# Altium schematic symbol library 10A_Motor_Driver.SchLib: 72 symbols (part 1 of 2)
Pins are listed as number, name and electrical type; pins without a type are passive.

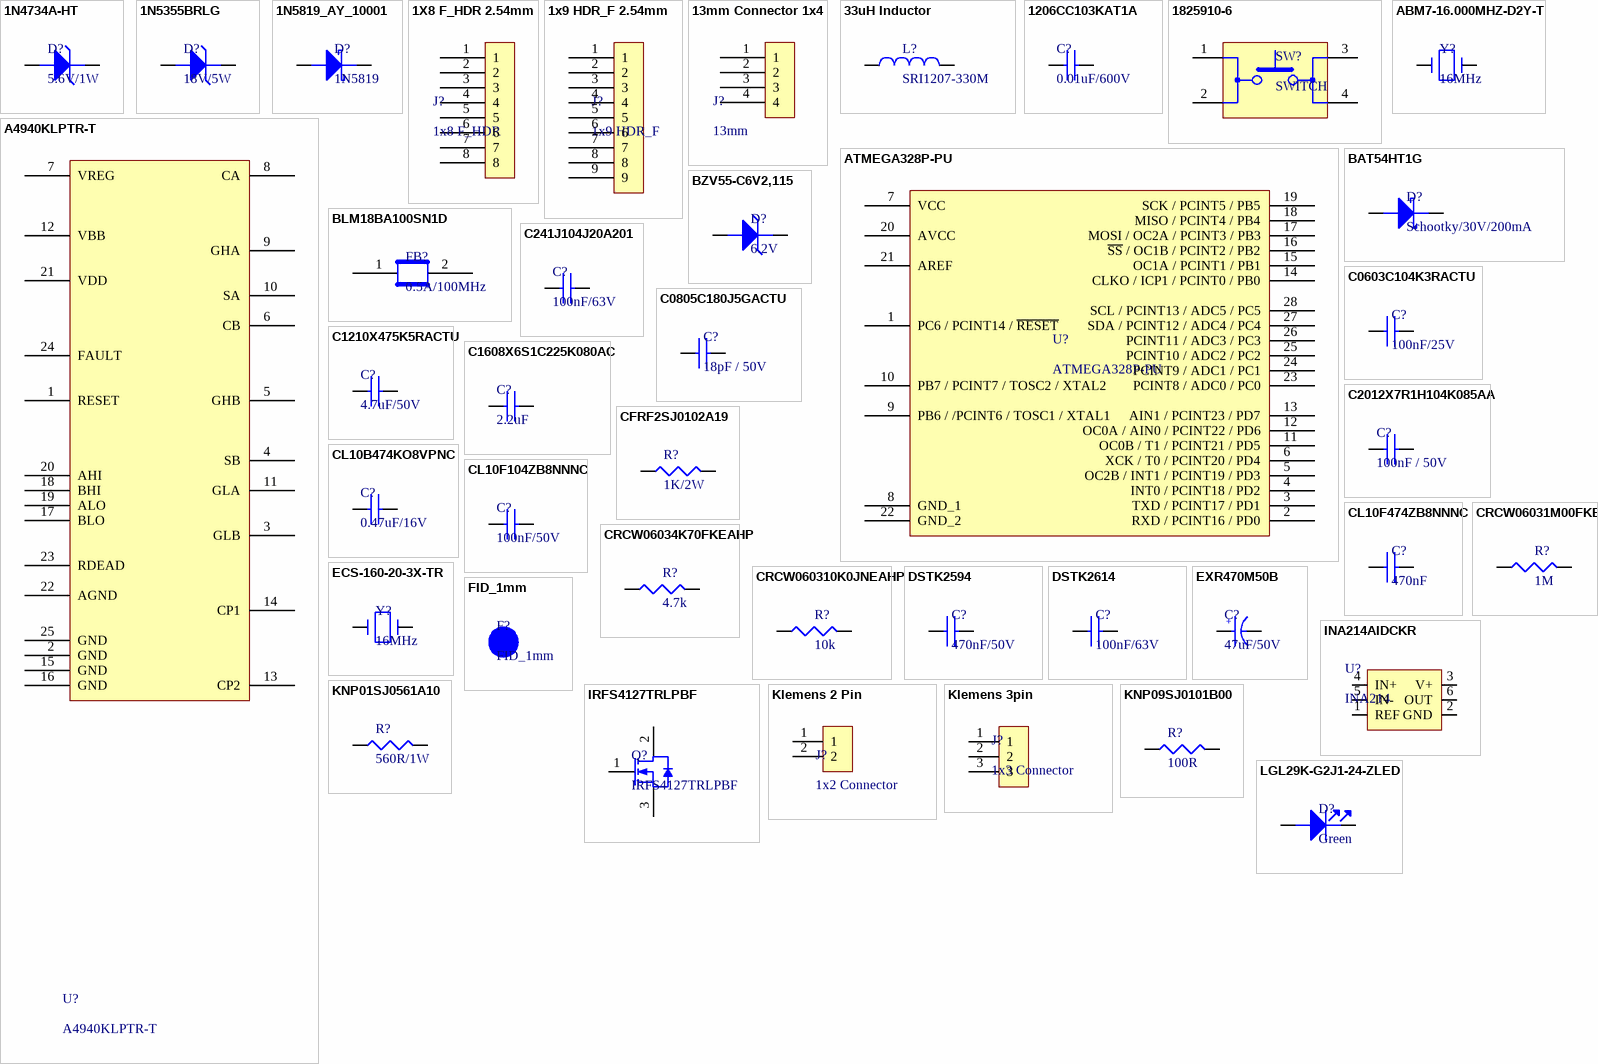
[diagram p0: symbols 1N4734A-HT to LGL29K-G2J1-24-ZLED]

## 1N4734A-HT
designator D?, comment 5.6V/1W
footprint 1N4745
pins: 1 Cathode, 2 Anode

## 1N5355BRLG
designator D?, comment 18V/5W
ON SEMICONDUCTOR   1N5355BRLG   DIODE, ZENER, 18V, 5W, 017AA-2; Material: Plastic; Forward Voltage: 1.2V; Tolerance: 5%; Max Reverse Leakage Current: 500nA; Impedance: 2.5R; Zener Current: 264mA; Test Current: 65mA; Element Configuration: Single; ESD Protection: Yes; Supplier 1: RSComponents; Manufacturer: ON Semiconductor; Manufacturer Part Number: 1N5355BRLG; RoHS: Yes; Category: Zener Diodes; Stock 1: 34000; Pricing 1: 4000=0,17300, 8000=0,16100, 4000=1,32800, 8000=1,23900 (EUR); Case/Package: Axial; Number of Pins: 2; Weight: 0.01lb; Contact Plating: Tin,Matte; Min Operating Temperature: -65°C; Max Operating Temperature: 200°C; Package Quantity: 1; Max Power Dissipation: 5W; Packaging: Tape and Reel; Power Dissipation: 5W; Zener Voltage: 18V; Voltage Tolerance: 5%; Working Voltage: 18V; Max Reverse Current: 500nA; Voltage Rating (DC): 18V; Power Rating: 5W; Length: 8.89mm; Width: 3.68mm; Height: 3.68mm; Radiation Hardening: No; REACH SVHC: No SVHC; Lead Free: Lead Free; Halogen Free: Halogen Free; ComponentLink1URL: https://datasheet.ciiva.com/15142/getdatasheetpartid-53953-15142149.pdf?src-supplier=Verical; ComponentLink1Description: https://datasheet.ciiva.com/15142/getdatasheetpartid-53953-15142149.pdf?src-supplier=Verical; ComponentLink2URL: https://datasheet.ciiva.com/27051/1305181-27051928.pdf?src-supplier=Jameco; ComponentLink2Description: https://datasheet.ciiva.com/27051/1305181-27051928.pdf?src-supplier=Jameco; ComponentLink3URL: https://datasheet.ciiva.com/49028/70339225-49028950.pdf?src-supplier=Allied+Electronics; ComponentLink3Description: https://datasheet.ciiva.com/49028/70339225-49028950.pdf?src-supplier=Allied+Electronics; ComponentLink4URL: https://datasheet.ciiva.com/895/1n5333b-d-895371.pdf?src-supplier=Digi-Key; ComponentLink4Description: https://datasheet.ciiva.com/895/1n5333b-d-895371.pdf?src-supplier=Digi-Key; ComponentLink5URL: https://datasheet.ciiva.com/895/1n5333b-d-895372.pdf?src-supplier=Digi-Key; ComponentLink5Description: https://datasheet.ciiva.com/895/1n5333b-d-895372.pdf?src-supplier=Digi-Key; ComponentLink6URL: https://datasheet.ciiva.com/10639/1n5333b-d-10639005.pdf?src-supplier=Avnet; ComponentLink6Description: https://datasheet.ciiva.com/10639/1n5333b-d-10639005.pdf?src-supplier=Avnet; ComponentLink7URL: https://datasheet.ciiva.com/25927/1n5333b-d-25927373.pdf?src-supplier=Avnet+Europe; ComponentLink7Description: https://datasheet.ciiva.com/25927/1n5333b-d-25927373.pdf?src-supplier=Avnet+Europe; ComponentLink8URL: https://datasheet.ciiva.com/22626/1796584-22626831.pdf?src-supplier=Element14; ComponentLink8Description: https://datasheet.ciiva.com/22626/1796584-22626831.pdf?src-supplier=Element14; Supplier Part Number 1: 1868755
footprint 1N4745
pins: 1 Cathode, 2 Anode

## 1N5819_AY_10001
designator D?, comment 1N5819
Manufacturer: Pan Jit; Manufacturer Part Number: 1N5819_AY_10001; Element Configuration: Single; Max Repetitive Reverse Voltage (Vrrm): 40V; Peak Non-Repetitive Surge Current: 25A; Forward Current: 1A; Max Reverse Current: 200uA; Supplier 1: Mouser; RoHS: Yes; Category: Rectifier Diodes; Stock 1: 4975; Pricing 1: 1=0,41000, 10=0,22500, 100=0,10900, 500=0,08600, 1000=0,06000, 2500=0,05000 (USD); Mount: Through Hole; Number of Pins: 2; Min Operating Temperature: -55°C; Max Operating Temperature: 150°C; Radiation Hardening: No; ComponentLink1URL: https://datasheet.ciiva.com/8300/1n5817-series-8300210.pdf?src-supplier=Avnet; ComponentLink1Description: https://datasheet.ciiva.com/8300/1n5817-series-8300210.pdf?src-supplier=Avnet; Supplier Part Number 1: 241-1N5819_AY_10001
footprint 1N5819
pins: 1 Cathode, 2 Anode

## 1X8 F_HDR 2.54mm
designator J?, comment 1x8 F_HDR
footprint 1x8 2.54 mm F_HDR
pins: 1, 2, 3, 4, 5, 6, 7, 8

## 1x9 HDR_F 2.54mm
designator J?, comment 1x9 HDR_F
footprint 1x9 HDR_F 2.54mm
pins: 1, 2, 3, 4, 5, 6, 7, 8, 9

## 13mm Connector 1x4
designator J?, comment 13mm
footprint 13mmConnector
pins: 1, 2, 3, 4

## 33uH Inductor
designator L?, comment SRI1207-330M
footprint 12x12mmINDP120120X80N (Precision Wire Wound Inductor, 2-Leads, Body 12,00x12,00mm, IPC Medium Density)
pins: 1, 2

## 1206CC103KAT1A
designator C?, comment 0.01uF/600V
Cap Ceramic 0.01uF 600V/630V X7R 10% SMD 1206 125C T/R; Manufacturer: Kyocera AVX; Manufacturer Part Number: 1206CC103KAT1A; Capacitance: 10nF; Voltage Rating (DC): 600V; Voltage: 630V; Temperature Coefficient: 30ppm/°C; Dissipation Factor: 2.5%; Supplier 1: Mouser; RoHS: Yes; Category: Ceramic Capacitors; Stock 1: 6225; Pricing 1: 1=0,54000, 10=0,37900, 100=0,22700, 500=0,17000, 1000=0,14400, 2000=0,11800 (USD); Mount: Surface Mount; Case/Package: 1206; Number of Pins: 2; Case Code (Imperial): 1206; Case Code (Metric): 3216; Dielectric Material: Ceramic; Min Operating Temperature: -55°C; Max Operating Temperature: 125°C; Dielectric: X7R; Tolerance: 10%; Packaging: Tape and Reel; Package Quantity: 1; Voltage Rating: 630V; Termination: SMD/SMT; Length: 3.2mm; Height: 1.52mm; Depth: 1.6mm; Width: 1.6mm; Thickness: 0.06inch; Radiation Hardening: No; Lead Free: Lead Free; REACH SVHC: No SVHC; ComponentLink1URL: https://datasheet.ciiva.com/11786/0900766b80ed4c37-11786882.pdf?src-supplier=RSComponents; ComponentLink1Description: https://datasheet.ciiva.com/11786/0900766b80ed4c37-11786882.pdf?src-supplier=RSComponents; ComponentLink2URL: https://datasheet.ciiva.com/153/aphvc-153234.pdf?src-supplier=Digi-Key; ComponentLink2Description: https://datasheet.ciiva.com/153/aphvc-153234.pdf?src-supplier=Digi-Key; ComponentLink3URL: https://datasheet.ciiva.com/153/aphvc-153235.pdf?src-supplier=Digi-Key; ComponentLink3Description: https://datasheet.ciiva.com/153/aphvc-153235.pdf?src-supplier=Digi-Key; ComponentLink4URL: https://datasheet.ciiva.com/153/aphvc-153236.pdf?src-supplier=Digi-Key; ComponentLink4Description: https://datasheet.ciiva.com/153/aphvc-153236.pdf?src-supplier=Digi-Key; ComponentLink5URL: https://datasheet.ciiva.com/7833/614334-7833529.pdf?src-supplier=Element14; ComponentLink5Description: https://datasheet.ciiva.com/7833/614334-7833529.pdf?src-supplier=Element14; ComponentLink6URL: https://datasheet.ciiva.com/7833/aphvc-7833673.pdf?src-supplier=Element14; ComponentLink6Description: https://datasheet.ciiva.com/7833/aphvc-7833673.pdf?src-supplier=Element14; ComponentLink7URL: https://datasheet.ciiva.com/7833/614334-7833530.pdf?src-supplier=Element14; ComponentLink7Description: https://datasheet.ciiva.com/7833/614334-7833530.pdf?src-supplier=Element14; ComponentLink8URL: https://datasheet.ciiva.com/23930/614334-23930155.pdf?src-supplier=Newark; ComponentLink8Description: https://datasheet.ciiva.com/23930/614334-23930155.pdf?src-supplier=Newark; ComponentLink9URL: https://datasheet.ciiva.com/11508/aphvc-11508303.pdf?src-supplier=Avnet; ComponentLink9Description: https://datasheet.ciiva.com/11508/aphvc-11508303.pdf?src-supplier=Avnet; ComponentLink10URL: https://datasheet.ciiva.com/17488/aphvc-17488879.pdf?src-supplier=Avnet+Europe; ComponentLink10Description: https://datasheet.ciiva.com/17488/aphvc-17488879.pdf?src-supplier=Avnet+Europe; Supplier Part Number 1: 581-1206CC103K
footprint 1206-CAPC3216X15N (Chip Capacitor, 2-Leads, Body 3,20x1,60mm, IPC Medium Density)
pins: 1, 2

## 1825910-6
designator SW?, comment SWITCH
ALCOSWITCH - TE CONNECTIVITY - 1825910-6 - TACT SWITCH, SPST, 0.05A, 24VDC, SOLDER; Manufacturer: TE Connectivity Alcoswitch; Actuator Material: PBT; Mechanical Life: 100000Cycles; Operating Force: 160gf; Illumination Type: Non-Illuminated,Illuminated; Switch Travel: 0.25mm; Switch Function: Off-Mom; Actuator Type: Standard; Max Voltage Rating (DC): 24V; Contact Current Rating: 50mA; Contact Resistance: 100mR; Actuator Length: 0.055inch; Supplier 1: Avnet; Manufacturer Part Number: 1825910-6; RoHS: Yes; Category: Pushbutton Switches; Stock 1: 24283; Pricing 1: 1=0,06448, 10=0,06269, 25=0,06099, 50=0,05939, 100=0,05786 (USD); Mount: Through Hole; Contact Material: Copper Alloy; Contact Plating: Silver; Min Operating Temperature: -35°C; Max Operating Temperature: 85°C; Termination: PC Pins; Throw Configuration: SPST; Package Quantity: 750; Packaging: Loose Piece; Orientation: Straight; Max Current Rating: 50mA; Electrical Life: 100000Cycles; Type: Switch; Length: 5.99mm; REACH SVHC: Unknown; ELV: Compliant; Lead Free: Lead Free; ComponentLink1URL: https://datasheet.ciiva.com/30199/1825910-6rqpn1825910-6-30199520.pdf?src-supplier=Onlinecomponents.com; ComponentLink1Description: https://datasheet.ciiva.com/30199/1825910-6rqpn1825910-6-30199520.pdf?src-supplier=Onlinecomponents.com; ComponentLink2URL: https://datasheet.ciiva.com/15184/getdatasheetpartid-395915-15184509.pdf?src-supplier=Verical; ComponentLink2Description: https://datasheet.ciiva.com/15184/getdatasheetpartid-395915-15184509.pdf?src-supplier=Verical; Supplier Part Number 1: 1825910-6
footprint 1825910-6
pins: 1, 2, 3, 4

## A4940KLPTR-T
designator U?
IC MOSF DVR FULL BRIDGE 24TSSOP; Manufacturer: Allegro MicroSystems; Number of Outputs: 4; Max Supply Voltage: 50V; Min Supply Voltage: 5.5V; Propagation Delay: 150ns; Number of Drivers: 1; Turn-Off Delay Time: 20ns; Turn-On Delay Time: 35ns; Supplier 1: Arrow; Manufacturer Part Number: A4940KLPTR-T; RoHS: Yes; Category: Gate Drivers; Stock 1: 11389; Pricing 1: 1=3,11000, 10=2,80000, 25=2,63700, 100=2,29400, 250=2,16500, 500=1,93900, 1000=1,63700, 3000=1,62100, 6000=1,58400, 4000=1,57300 (USD); Mount: Surface Mount; Case/Package: TSSOP; Number of Pins: 24; Min Operating Temperature: -40°C; Max Operating Temperature: 150°C; Package Quantity: 4000; Packaging: Tape and Reel; Radiation Hardening: No; ComponentLink1URL: https://datasheet.ciiva.com/1949/a4940-datasheet-1949840.pdf?src-supplier=Digi-Key; ComponentLink1Description: https://datasheet.ciiva.com/1949/a4940-datasheet-1949840.pdf?src-supplier=Digi-Key; ComponentLink2URL: https://datasheet.ciiva.com/1949/a4940-datasheet-1949840.pdf?src-supplier=Avnet; ComponentLink2Description: https://datasheet.ciiva.com/1949/a4940-datasheet-1949840.pdf?src-supplier=Avnet; ComponentLink3URL: https://datasheet.ciiva.com/26927/getdatasheetpartid-663856-26927910.pdf?src-supplier=Verical; ComponentLink3Description: https://datasheet.ciiva.com/26927/getdatasheetpartid-663856-26927910.pdf?src-supplier=Verical; ComponentLink4URL: https://datasheet.ciiva.com/17235/a4940-datasheet-17235002.pdf?src-supplier=Avnet+Europe; ComponentLink4Description: https://datasheet.ciiva.com/17235/a4940-datasheet-17235002.pdf?src-supplier=Avnet+Europe; Supplier Part Number 1: A4940KLPTR-T
footprint A4940-TSOP65P640X120_HS-25N (TSOP, 24-Leads, Body 7,80x4,40mm, Pitch 0,65mm, Thermal Pad 4,32x3,00mm, IPC Medium Density)
pins: 1 RESET, 2 GND, 3 GLB, 4 SB, 5 GHB, 6 CB, 7 VREG, 8 CA, 9 GHA, 10 SA, 11 GLA, 12 VBB, 13 CP2, 14 CP1, 15 GND, 16 GND, 17 BLO, 18 BHI, 19 ALO, 20 AHI, 21 VDD, 22 AGND, 23 RDEAD, 24 FAULT, 25 GND

## ABM7-16.000MHZ-D2Y-T
designator Y?, comment 16MHz
CRYSTAL 16.0000MHZ 18PF SMD; Manufacturer: Abracon; Manufacturer Part Number: ABM7-16.000MHZ-D2Y-T; Frequency Tolerance: 20ppm; Frequency Stability: 30ppm; ESR (Equivalent Series Resistance): 50R; Supplier 1: Avnet; RoHS: Yes; Category: Crystals; Stock 1: 8000; Pricing 1: 1000=0,50000, 2000=0,48611, 4000=0,47297, 6000=0,46053, 10000=0,44872 (USD); Mount: Surface Mount; Case/Package: CSMD; Number of Pins: 2; Min Operating Temperature: -40°C; Max Operating Temperature: 85°C; Load Capacitance: 18pF; Frequency: 16MHz; Packaging: Tape and Reel; Package Quantity: 1000; Tolerance: 20ppm; Termination: SMD/SMT; Composition: Ceramic; Length: 6mm; Height: 0.055inch; Width: 3.3mm; Depth: 3.5mm; Radiation Hardening: No; REACH SVHC: Unknown; Lead Free: Lead Free; ComponentLink1URL: https://datasheet.ciiva.com/15116/getdatasheetpartid-721624-15116835.pdf?src-supplier=Verical; ComponentLink1Description: https://datasheet.ciiva.com/15116/getdatasheetpartid-721624-15116835.pdf?src-supplier=Verical; ComponentLink2URL: https://datasheet.ciiva.com/22658/947971-22658293.pdf?src-supplier=Element14; ComponentLink2Description: https://datasheet.ciiva.com/22658/947971-22658293.pdf?src-supplier=Element14; ComponentLink3URL: https://datasheet.ciiva.com/5788/abm7-5788054.pdf?src-supplier=Farnell; ComponentLink3Description: https://datasheet.ciiva.com/5788/abm7-5788054.pdf?src-supplier=Farnell; ComponentLink4URL: https://datasheet.ciiva.com/16383/abm7-16383174.pdf?src-supplier=Future+Electronics; ComponentLink4Description: https://datasheet.ciiva.com/16383/abm7-16383174.pdf?src-supplier=Future+Electronics; ComponentLink5URL: https://datasheet.ciiva.com/7998/947971-7998600.pdf?src-supplier=Element14; ComponentLink5Description: https://datasheet.ciiva.com/7998/947971-7998600.pdf?src-supplier=Element14; ComponentLink6URL: https://datasheet.ciiva.com/18649/abm7-18649865.pdf?src-supplier=Digi-Key; ComponentLink6Description: https://datasheet.ciiva.com/18649/abm7-18649865.pdf?src-supplier=Digi-Key; ComponentLink7URL: https://datasheet.ciiva.com/18649/abm7-18649866.pdf?src-supplier=Digi-Key; ComponentLink7Description: https://datasheet.ciiva.com/18649/abm7-18649866.pdf?src-supplier=Digi-Key; ComponentLink8URL: https://datasheet.ciiva.com/18649/abm7-18649867.pdf?src-supplier=Digi-Key; ComponentLink8Description: https://datasheet.ciiva.com/18649/abm7-18649867.pdf?src-supplier=Digi-Key; ComponentLink9URL: https://datasheet.ciiva.com/46385/947971-46385243.pdf?src-supplier=Element14; ComponentLink9Description: https://datasheet.ciiva.com/46385/947971-46385243.pdf?src-supplier=Element14; ComponentLink10URL: https://datasheet.ciiva.com/26941/getdatasheetpartid-719818-26941724.pdf?src-supplier=Verical; ComponentLink10Description: https://datasheet.ciiva.com/26941/getdatasheetpartid-719818-26941724.pdf?src-supplier=Verical; Supplier Part Number 1: ABM7-16.000MHZ-D2Y-T
footprint CRYSTAL
pins: 1, 2

## ATMEGA328P-PU
designator U?
ATMEL         ATMEGA328-PU            8 Bit Microcontroller, Low Power High Performance, ATmega, 20 MHz, 32 KB, 2 KB, 28 Pins, DIP
footprint 28Pins_Atmega328-pu
pins: 1 PC6 / PCINT14 / ~{RESET}, 2 RXD / PCINT16 / PD0, 3 TXD / PCINT17 / PD1, 4 INT0 / PCINT18 / PD2, 5 OC2B / INT1 / PCINT19 / PD3, 6 XCK / T0 / PCINT20 / PD4, 7 VCC, 8 GND_1, 9 PB6 / /PCINT6 / TOSC1 / XTAL1, 10 PB7 / PCINT7 / TOSC2 / XTAL2, 11 OC0B / T1 / PCINT21 / PD5, 12 OC0A / AIN0 / PCINT22 / PD6, 13 AIN1 / PCINT23 / PD7, 14 CLKO / ICP1 / PCINT0 / PB0, 15 OC1A / PCINT1 / PB1, 16 ~{SS} / OC1B / PCINT2 / PB2, 17 MOSI / OC2A / PCINT3 / PB3, 18 MISO / PCINT4 / PB4, 19 SCK / PCINT5 / PB5, 20 AVCC, 21 AREF, 22 GND_2, 23 PCINT8 / ADC0 / PC0, 24 PCINT9 / ADC1 / PC1, 25 PCINT10 / ADC2 / PC2, 26 PCINT11 / ADC3 / PC3, 27 SDA / PCINT12 / ADC4 / PC4, 28 SCL / PCINT13 / ADC5 / PC5

## BAT54HT1G
designator D?, comment Schootky/30V/200mA
DIODE SCHOTTKY 30V 200MA SOD323; Manufacturer: ON Semiconductor / Fairchild; Manufacturer Part Number: BAT54HT1G; Forward Voltage: 800mV; Recovery Time: 5ns; Peak Non-Repetitive Surge Current: 600mA; Element Configuration: Single; Peak Reverse Current: 2uA; Power Dissipation: 200mW; Polarity: Standard; Capacitance: 10pF; Supplier 1: Future Electronics; RoHS: Yes; Category: Rectifier Diodes; Stock 1: 6016316; Pricing 1: 1=0,18600, 250=0,06030, 500=0,05230, 750=0,04810, 1500=0,04180 (USD); Mount: Surface Mount; Number of Pins: 2; Contact Plating: Tin,Matte; Min Operating Temperature: -55°C; Max Operating Temperature: 150°C; Packaging: Tape and Reel; Package Quantity: 3000; Forward Current: 200mA; Average Rectified Current: 200mA; Reverse Recovery Time: 5ns; Max Repetitive Reverse Voltage (Vrrm): 30V; Max Forward Surge Current (Ifsm): 600mA; Max Reverse Voltage (DC): 30V; Max Surge Current: 600mA; Voltage Rating (DC): 30V; Current Rating: 200mA; Output Current: 200mA; Reverse Voltage: 30V; Max Reverse Leakage Current: 2uA; Length: 1.8mm; Height: 1mm; Width: 1.35mm; Radiation Hardening: No; Lead Free: Lead Free; REACH SVHC: No SVHC; ComponentLink1URL: https://datasheet.ciiva.com/4714/bat54ht1-d-72881-4714706.pdf?src-supplier=Mouser; ComponentLink1Description: https://datasheet.ciiva.com/4714/bat54ht1-d-72881-4714706.pdf?src-supplier=Mouser; ComponentLink2URL: https://datasheet.ciiva.com/30479/0900766b811a63a9-30479442.pdf?src-supplier=RSComponents; ComponentLink2Description: https://datasheet.ciiva.com/30479/0900766b811a63a9-30479442.pdf?src-supplier=RSComponents; ComponentLink3URL: https://datasheet.ciiva.com/34301/806549-34301562.pdf?src-supplier=Jameco; ComponentLink3Description: https://datasheet.ciiva.com/34301/806549-34301562.pdf?src-supplier=Jameco; ComponentLink4URL: https://datasheet.ciiva.com/1240/1747983-1240762.pdf?src-supplier=Newark; ComponentLink4Description: https://datasheet.ciiva.com/1240/1747983-1240762.pdf?src-supplier=Newark; ComponentLink5URL: https://datasheet.ciiva.com/4452/bat54ht1g-104602-4452889.pdf?src-supplier=Mouser; ComponentLink5Description: https://datasheet.ciiva.com/4452/bat54ht1g-104602-4452889.pdf?src-supplier=Mouser; ComponentLink6URL: https://datasheet.ciiva.com/910/bat54ht1g-910497.pdf?src-supplier=Digi-Key; ComponentLink6Description: https://datasheet.ciiva.com/910/bat54ht1g-910497.pdf?src-supplier=Digi-Key; ComponentLink7URL: https://datasheet.ciiva.com/1180/bat54ht1-d-1180252.pdf?src-supplier=Element14; ComponentLink7Description: https://datasheet.ciiva.com/1180/bat54ht1-d-1180252.pdf?src-supplier=Element14; ComponentLink8URL: https://datasheet.ciiva.com/1180/bat54ht1-d-1180251.pdf?src-supplier=Element14; ComponentLink8Description: https://datasheet.ciiva.com/1180/bat54ht1-d-1180251.pdf?src-supplier=Element14; ComponentLink9URL: https://datasheet.ciiva.com/46429/1727620-46429206.pdf?src-supplier=Element14; ComponentLink9Description: https://datasheet.ciiva.com/46429/1727620-46429206.pdf?src-supplier=Element14; ComponentLink10URL: https://datasheet.ciiva.com/8294/bat54ht1-d-8294645.pdf?src-supplier=Avnet; ComponentLink10Description: https://datasheet.ciiva.com/8294/bat54ht1-d-8294645.pdf?src-supplier=Avnet; ComponentLink11URL: https://datasheet.ciiva.com/915/bat54ht1-d-915445.pdf?src-supplier=Digi-Key; ComponentLink11Description: https://datasheet.ciiva.com/915/bat54ht1-d-915445.pdf?src-supplier=Digi-Key; ComponentLink12URL: https://datasheet.ciiva.com/915/bat54ht1-d-915444.pdf?src-supplier=Digi-Key; ComponentLink12Description: https://datasheet.ciiva.com/915/bat54ht1-d-915444.pdf?src-supplier=Digi-Key; ComponentLink13URL: https://datasheet.ciiva.com/915/bat54ht1-d-915443.pdf?src-supplier=Digi-Key; ComponentLink13Description: https://datasheet.ciiva.com/915/bat54ht1-d-915443.pdf?src-supplier=Digi-Key; ComponentLink14URL: https://datasheet.ciiva.com/910/bat54ht1g-910499.pdf?src-supplier=Digi-Key; ComponentLink14Description: https://datasheet.ciiva.com/910/bat54ht1g-910499.pdf?src-supplier=Digi-Key; ComponentLink15URL: https://datasheet.ciiva.com/910/bat54ht1g-910498.pdf?src-supplier=Digi-Key; ComponentLink15Description: https://datasheet.ciiva.com/910/bat54ht1g-910498.pdf?src-supplier=Digi-Key; ComponentLink16URL: https://datasheet.ciiva.com/8303/bat54ht1g-8303645.pdf?src-supplier=Avnet; ComponentLink16Description: https://datasheet.ciiva.com/8303/bat54ht1g-8303645.pdf?src-supplier=Avnet; ComponentLink17URL: https://datasheet.ciiva.com/17020/bat54ht1g-17020445.pdf?src-supplier=Future+Electronics; ComponentLink17Description: https://datasheet.ciiva.com/17020/bat54ht1g-17020445.pdf?src-supplier=Future+Electronics; ComponentLink18URL: https://datasheet.ciiva.com/48686/001262925-da-01-en-diode-schottky-30v-bat54ht1g-sod-323-fsc-48686266.pdf?src-supplier=Conrad; ComponentLink18Description: https://datasheet.ciiva.com/48686/001262925-da-01-en-diode-schottky-30v-bat54ht1g-sod-323-fsc-48686266.pdf?src-supplier=Conrad; Supplier Part Number 1: BAT54HT1G-CUTT
footprint SOD323
pins: 1 Cathode, 2 Anode

## BLM18BA100SN1D
designator FB?, comment 0.5A/100MHz
Ind Chip Bead 10Ohm 25% 100MHz Ferrite 500mA 0603 Paper T/R; Manufacturer: Murata; Manufacturer Part Number: BLM18BA100SN1D; Material: Steel,Ferrite; Impedance: 10R; DC Resistance (DCR): 250mR; Shielding: Unshielded; Number of Circuits: 1; Supplier 1: Avnet; RoHS: Yes; Category: Inductors; Stock 1: 112000; Pricing 1: 72000=0,02171, 80000=0,02089, 152000=0,02014, 360000=0,01941, 720000=0,01908 (USD); Case/Package: 0603; Number of Pins: 2; Core Material: Ferrite; Case Code (Imperial): 0603; Case Code (Metric): 1608; Min Operating Temperature: -55°C; Max Operating Temperature: 125°C; Tolerance: 25%; Max DC Current: 500mA; Max Current Rating: 500mA; Package Quantity: 1; Packaging: Tape and Reel; Current Rating: 500mA; Number of Lines: 1; Termination: SMD/SMT; Test Frequency: 100MHz; DC Current: 500mA; Military Standard: Not; Length: 1.6mm; Height: 0.8mm; Width: 0.8mm; Depth: 0.8mm; Radiation Hardening: No; REACH SVHC: No SVHC; Lead Free: Lead Free; ComponentLink1URL: https://datasheet.ciiva.com/19458/1844782-19458416.pdf?src-supplier=Jameco; ComponentLink1Description: https://datasheet.ciiva.com/19458/1844782-19458416.pdf?src-supplier=Jameco; ComponentLink2URL: https://datasheet.ciiva.com/11799/0900766b811b5866-11799122.pdf?src-supplier=RSComponents; ComponentLink2Description: https://datasheet.ciiva.com/11799/0900766b811b5866-11799122.pdf?src-supplier=RSComponents; ComponentLink3URL: https://datasheet.ciiva.com/18183/getdatasheetpartid-226835-18183182.pdf?src-supplier=Verical; ComponentLink3Description: https://datasheet.ciiva.com/18183/getdatasheetpartid-226835-18183182.pdf?src-supplier=Verical; ComponentLink4URL: https://datasheet.ciiva.com/41449/001172232-da-01-en-drossel-0603-10r0-1-6x0-8mm-4000st-41449521.pdf?src-supplier=Conrad; ComponentLink4Description: https://datasheet.ciiva.com/41449/001172232-da-01-en-drossel-0603-10r0-1-6x0-8mm-4000st-41449521.pdf?src-supplier=Conrad; ComponentLink5URL: https://datasheet.ciiva.com/41449/001172231-da-01-en-drossel-0603-10r0-1-6x0-8mm-4000st-41449522.pdf?src-supplier=Conrad; ComponentLink5Description: https://datasheet.ciiva.com/41449/001172231-da-01-en-drossel-0603-10r0-1-6x0-8mm-4000st-41449522.pdf?src-supplier=Conrad; ComponentLink6URL: https://datasheet.ciiva.com/1466/5147-1466937.pdf?src-supplier=Element14; ComponentLink6Description: https://datasheet.ciiva.com/1466/5147-1466937.pdf?src-supplier=Element14; ComponentLink7URL: https://datasheet.ciiva.com/1466/5147-1466938.pdf?src-supplier=Element14; ComponentLink7Description: https://datasheet.ciiva.com/1466/5147-1466938.pdf?src-supplier=Element14; ComponentLink8URL: https://datasheet.ciiva.com/6211/l0110s0100blm18b-6211546.pdf?src-supplier=Digi-Key; ComponentLink8Description: https://datasheet.ciiva.com/6211/l0110s0100blm18b-6211546.pdf?src-supplier=Digi-Key; ComponentLink9URL: https://datasheet.ciiva.com/16420/l0110s0100blm18b-16420763.pdf?src-supplier=Future+Electronics; ComponentLink9Description: https://datasheet.ciiva.com/16420/l0110s0100blm18b-16420763.pdf?src-supplier=Future+Electronics; ComponentLink10URL: https://datasheet.ciiva.com/6211/l0110s0100blm18b-6211549.pdf?src-supplier=Digi-Key; ComponentLink10Description: https://datasheet.ciiva.com/6211/l0110s0100blm18b-6211549.pdf?src-supplier=Digi-Key; ComponentLink11URL: https://datasheet.ciiva.com/3081/l0110s0100blm18b-3081614.pdf?src-supplier=Avnet; ComponentLink11Description: https://datasheet.ciiva.com/3081/l0110s0100blm18b-3081614.pdf?src-supplier=Avnet; ComponentLink12URL: https://datasheet.ciiva.com/17279/l0110s0100blm18b-17279503.pdf?src-supplier=Avnet+Europe; ComponentLink12Description: https://datasheet.ciiva.com/17279/l0110s0100blm18b-17279503.pdf?src-supplier=Avnet+Europe; Supplier Part Number 1: BLM18BA100SN1D
footprint 0603-RESC1608X06N (Chip Resistor, 2-Leads, Body 1,60x0,80mm, IPC Medium Density)
pins: 1, 2

## BZV55-C6V2,115
designator D?, comment 6.2V
NEXPERIA - BZV55-C6V2,115.. - DIODE ZENER 6.2V 500MW SOD-80C-2; Supplier 1: Newark; Manufacturer: Nexperia; Manufacturer Part Number: BZV55-C6V2,115; RoHS: No; Stock 1: 85000; Pricing 1: 2500=0,04100, 5000=0,03900, 10000=0,03700 (USD); ComponentLink1URL: http://www.farnell.com/datasheets/1498690.pdf?src-supplier=Farnell; ComponentLink1Description: http://www.farnell.com/datasheets/1498690.pdf?src-supplier=Farnell; ComponentLink2URL: https://assets.nexperia.com/documents/data-sheet/BZV55_SER.pdf?src-supplier=Digi-Key; ComponentLink2Description: https://assets.nexperia.com/documents/data-sheet/BZV55_SER.pdf?src-supplier=Digi-Key; Supplier Part Number 1: 27AC1192
footprint SOD80C-ZENER/DIOMELF3515N (MELF Diode, 2-Leads, Body 3,50x1,53mm, IPC Medium Density)
pins: 1 Cathode, 2 Anode

## C241J104J20A201
designator C?, comment 100nF/63V
Cap Film 0.1uF 63V PET 5% Stacked Radial 5mm 105°C Ammo Pack; Manufacturer: Surge Components; Manufacturer Part Number: C241J104J20A201; Capacitance: 100nF; Supplier 1: Avnet; RoHS: Yes; Category: Film Capacitors; Stock 1: 10000; Mount: Through Hole; Case/Package: Radial; Dielectric Material: PET; Min Operating Temperature: -55°C; Max Operating Temperature: 105°C; Termination: Radial; Voltage Rating: 63V; Tolerance: 5%; Lead Pitch: 5mm; Lead Free: Lead Free; ComponentLink1URL: https://datasheet.ciiva.com/17457/c241j104j20a201-17457906.pdf?src-supplier=Future+Electronics; ComponentLink1Description: https://datasheet.ciiva.com/17457/c241j104j20a201-17457906.pdf?src-supplier=Future+Electronics; Supplier Part Number 1: C241J104J20A201
footprint Film Cap
pins: 1, 2

## C0603C104K3RACTU
designator C?, comment 100nF/25V
Cap Ceramic 0.1uF 25V X7R 10% SMD 0603 125C Paper T/R; Manufacturer: KEMET; Manufacturer Part Number: C0603C104K3RACTU; Capacitance: 100nF; Dissipation Factor: 3.5%; Supplier 1: Avnet; RoHS: Yes; Category: Ceramic Capacitors; Stock 1: 40000; Pricing 1: 40000=0,02112 (USD); Mount: Surface Mount,PCB; Case/Package: 0603; Number of Pins: 2; Dielectric Material: Ceramic; Case Code (Metric): 1608; Case Code (Imperial): 0603; Contact Plating: Tin,Matte; Min Operating Temperature: -55°C; Max Operating Temperature: 125°C; Packaging: Tape and Reel; Voltage Rating (DC): 25V; Termination: SMD/SMT; Dielectric: X7R; Package Quantity: 1; Tolerance: 10%; Voltage: 25V; Voltage Rating: 25V; Length: 1.6mm; Height: 0.8mm; Width: 0.031inch; Thickness: 0.034inch; Lead Pitch: 0.7mm; Depth: 0.8mm; Radiation Hardening: No; REACH SVHC: No SVHC; ComponentLink1URL: https://datasheet.ciiva.com/7258/1828800-7258395.pdf?src-supplier=Newark; ComponentLink1Description: https://datasheet.ciiva.com/7258/1828800-7258395.pdf?src-supplier=Newark; ComponentLink2URL: https://datasheet.ciiva.com/18219/getdatasheetpartid-72529-18219211.pdf?src-supplier=Verical; ComponentLink2Description: https://datasheet.ciiva.com/18219/getdatasheetpartid-72529-18219211.pdf?src-supplier=Verical; ComponentLink3URL: https://datasheet.ciiva.com/28645/1851736-28645628.pdf?src-supplier=Element14; ComponentLink3Description: https://datasheet.ciiva.com/28645/1851736-28645628.pdf?src-supplier=Element14; Supplier Part Number 1: C0603C104K3RACTU
footprint 0603-CAPC1608X09N (Chip Capacitor, 2-Leads, Body 1,60x0,80mm, IPC Medium Density)
pins: 1, 2

## C0805C180J5GACTU
designator C?, comment 18pF / 50V
CAP CER 18PF 50V C0G/NP0 0805; Manufacturer: KEMET; Manufacturer Part Number: C0805C180J5GACTU; Dielectric Material: Ceramic; Tolerance: 5%; Dielectric: C0G; Temperature Coefficient: 30ppm/°C; Supplier 1: Digi-Key; RoHS: Yes; Category: Ceramic Capacitors; Stock 1: 78670; Pricing 1: 1=0,14000, 10=0,10000, 100=0,04680, 500=0,03282, 1000=0,02716 (USD); Mount: Surface Mount; Case/Package: 0805; Contact Plating: Tin,Matte; Min Operating Temperature: -55°C; Max Operating Temperature: 125°C; Capacitance: 18pF; Packaging: Tape and Reel; Voltage: 50V; Termination: SMD/SMT; Voltage Rating (DC): 50V; Length: 2mm; Height: 0.78mm; Depth: 1.25mm; Radiation Hardening: No; Lead Free: Lead Free; ComponentLink1URL: https://datasheet.ciiva.com/22746/1769375-22746770.pdf?src-supplier=Element14; ComponentLink1Description: https://datasheet.ciiva.com/22746/1769375-22746770.pdf?src-supplier=Element14; ComponentLink2URL: https://datasheet.ciiva.com/26923/getdatasheetpartid-759702-26923980.pdf?src-supplier=Verical; ComponentLink2Description: https://datasheet.ciiva.com/26923/getdatasheetpartid-759702-26923980.pdf?src-supplier=Verical; ComponentLink3URL: https://datasheet.ciiva.com/26847/getdatasheetpartid-385668-26847862.pdf?src-supplier=Verical; ComponentLink3Description: https://datasheet.ciiva.com/26847/getdatasheetpartid-385668-26847862.pdf?src-supplier=Verical; Supplier Part Number 1: 399-1112-1-ND
footprint C0805
pins: 1, 2

## C1210X475K5RACTU
designator C?, comment 4.7uF/50V
KEMET - C1210X475K5RACTU - Keramikvielschichtkondensator, SMD, FT-CAP, 4.7 µF, 50 V, 1210 [Metrisch 3225], ± 10%, X7R; Dielectric Material: Ceramic; Capacitance: 4.7uF; Voltage Rating: 50V; Dissipation Factor: 2.5%; Supplier 1: Mouser; Manufacturer: KEMET; Manufacturer Part Number: C1210X475K5RACTU; RoHS: Yes; Category: Ceramic Capacitors; Stock 1: 55309; Pricing 1: 1=2,07000, 10=1,65000, 100=1,19000, 500=0,98100, 1000=0,71100, 2000=0,66000, 10000=0,64700, 25000=0,63000, 50000=0,62200 (USD); Mount: Surface Mount,PCB; Case/Package: 1210; Number of Pins: 2; Case Code (Metric): 3225; Case Code (Imperial): 1210; Min Operating Temperature: -55°C; Max Operating Temperature: 125°C; Features: Soft Termination; Tolerance: 10%; Packaging: Tape and Reel; Voltage Rating (DC): 50V; Package Quantity: 1000; Termination: SMD/SMT; Voltage: 50V; Dielectric: X7R; Length: 3.3mm; Height: 2.5mm; Thickness: 0.11inch; Width: 2.5mm; Depth: 2.5mm; Radiation Hardening: No; REACH SVHC: No SVHC; ComponentLink1URL: https://datasheet.ciiva.com/149/c1210x475k5ractu-149627.pdf?src-supplier=Digi-Key; ComponentLink1Description: https://datasheet.ciiva.com/149/c1210x475k5ractu-149627.pdf?src-supplier=Digi-Key; ComponentLink2URL: https://datasheet.ciiva.com/7807/75233-7807305.pdf?src-supplier=Element14; ComponentLink2Description: https://datasheet.ciiva.com/7807/75233-7807305.pdf?src-supplier=Element14; ComponentLink3URL: https://datasheet.ciiva.com/7807/75233-7807306.pdf?src-supplier=Element14; ComponentLink3Description: https://datasheet.ciiva.com/7807/75233-7807306.pdf?src-supplier=Element14; ComponentLink4URL: https://datasheet.ciiva.com/7807/kem-c1002-x7r-smd-7807546.pdf?src-supplier=Element14; ComponentLink4Description: https://datasheet.ciiva.com/7807/kem-c1002-x7r-smd-7807546.pdf?src-supplier=Element14; ComponentLink5URL: https://datasheet.ciiva.com/14598/70096394-14598315.pdf?src-supplier=Allied+Electronics; ComponentLink5Description: https://datasheet.ciiva.com/14598/70096394-14598315.pdf?src-supplier=Allied+Electronics; ComponentLink6URL: https://datasheet.ciiva.com/149/c1210x475k5ractu-149628.pdf?src-supplier=Digi-Key; ComponentLink6Description: https://datasheet.ciiva.com/149/c1210x475k5ractu-149628.pdf?src-supplier=Digi-Key; ComponentLink7URL: https://datasheet.ciiva.com/149/c1210x475k5ractu-149629.pdf?src-supplier=Digi-Key; ComponentLink7Description: https://datasheet.ciiva.com/149/c1210x475k5ractu-149629.pdf?src-supplier=Digi-Key; ComponentLink8URL: https://datasheet.ciiva.com/6126/kem-c1002-x7r-smd-6126685.pdf?src-supplier=Farnell; ComponentLink8Description: https://datasheet.ciiva.com/6126/kem-c1002-x7r-smd-6126685.pdf?src-supplier=Farnell; Supplier Part Number 1: 80-C1210X475K5R
footprint 1210-CAPC3326X28N (Chip Capacitor, 2-Leads, Body 3,30x2,60mm, IPC Medium Density)
pins: 1, 2

## C1608X6S1C225K080AC
designator C?, comment 2.2uF
CAP CER 2.2UF 16V X6S 0603; Manufacturer: TDK; Manufacturer Part Number: C1608X6S1C225K080AC; Dielectric Material: Ceramic; Tolerance: 10%; Supplier 1: Mouser; RoHS: Yes; Category: Ceramic Capacitors; Stock 1: 6990; Pricing 1: 1=0,19000, 10=0,07700, 100=0,05400, 500=0,04500, 1000=0,03700, 4000=0,02700 (USD); Mount: Surface Mount; Case/Package: 0603; Case Code (Metric): 1608; Case Code (Imperial): 0603; Min Operating Temperature: -55°C; Max Operating Temperature: 105°C; Package Quantity: 1; Capacitance: 2.2uF; Voltage Rating: 16V; Packaging: Tape and Reel; Dielectric: X6S; Voltage Rating (DC): 16V; Length: 1.6mm; Height: 0.8mm; Width: 0.031inch; Thickness: 0.035inch; Depth: 0.8mm; Lead Free: Lead Free; ComponentLink1URL: https://datasheet.ciiva.com/6259/tdkmlcccaprange-6259157.pdf?src-supplier=Digi-Key; ComponentLink1Description: https://datasheet.ciiva.com/6259/tdkmlcccaprange-6259157.pdf?src-supplier=Digi-Key; Supplier Part Number 1: 810-C1608X6S1C225KAC
footprint 0603-CAPC1608X09N (Chip Capacitor, 2-Leads, Body 1,60x0,80mm, IPC Medium Density)
pins: 1, 2

## C2012X7R1H104K085AA
designator C?, comment 100nF / 50V
CAP CER 0.1UF 50V X7R 0805; Manufacturer: TDK; Manufacturer Part Number: C2012X7R1H104K085AA; Dielectric Material: Ceramic; Tolerance: 10%; Supplier 1: Mouser; RoHS: Yes; Category: Ceramic Capacitors; Stock 1: 59708; Pricing 1: 1=0,17000, 10=0,07600, 100=0,04500, 500=0,03400, 1000=0,02800, 4000=0,02000 (USD); Mount: Surface Mount; Case/Package: 0805; Number of Pins: 2; Weight: 0.000194oz; Case Code (Metric): 2012; Case Code (Imperial): 0805; Min Operating Temperature: -55°C; Max Operating Temperature: 125°C; Capacitance: 100nF; Dielectric: X7R; Voltage Rating: 50V; Packaging: Tape and Reel; Voltage Rating (DC): 50V; Termination: SMD/SMT; Package Quantity: 1; Composition: Ceramic; Voltage: 50V; Length: 2mm; Height: 0.85mm; Depth: 1.25mm; Width: 0.049inch; Thickness: 0.037inch; Radiation Hardening: No; REACH SVHC: No SVHC; Lead Free: Lead Free; ComponentLink1URL: https://datasheet.ciiva.com/11788/0900766b80c1bb00-11788128.pdf?src-supplier=RSComponents; ComponentLink1Description: https://datasheet.ciiva.com/11788/0900766b80c1bb00-11788128.pdf?src-supplier=RSComponents; ComponentLink2URL: https://datasheet.ciiva.com/6250/tdkmlcccaprange-6250821.pdf?src-supplier=Digi-Key; ComponentLink2Description: https://datasheet.ciiva.com/6250/tdkmlcccaprange-6250821.pdf?src-supplier=Digi-Key; ComponentLink3URL: https://datasheet.ciiva.com/24191/e412-c-24191447.pdf?src-supplier=Future+Electronics; ComponentLink3Description: https://datasheet.ciiva.com/24191/e412-c-24191447.pdf?src-supplier=Future+Electronics; ComponentLink4URL: https://datasheet.ciiva.com/6250/tdkmlcccaprange-6250824.pdf?src-supplier=Digi-Key; ComponentLink4Description: https://datasheet.ciiva.com/6250/tdkmlcccaprange-6250824.pdf?src-supplier=Digi-Key; ComponentLink5URL: https://datasheet.ciiva.com/23803/1796654-23803035.pdf?src-supplier=Newark; ComponentLink5Description: https://datasheet.ciiva.com/23803/1796654-23803035.pdf?src-supplier=Newark; ComponentLink6URL: https://datasheet.ciiva.com/28602/1571323-28602204.pdf?src-supplier=Element14; ComponentLink6Description: https://datasheet.ciiva.com/28602/1571323-28602204.pdf?src-supplier=Element14; Supplier Part Number 1: 810-C2012X7R1H104K-2
footprint C0805
pins: 1, 2

## CFRF2SJ0102A19
designator R?, comment 1K/2W
footprint THT Resistor
pins: 1, 2

## CL10B474KO8VPNC
designator C?, comment 0.47uF/16V
CAP CER 0.47UF 16V X7R 0603; Manufacturer: Samsung; Manufacturer Part Number: CL10B474KO8VPNC; Capacitance: 470nF; Tolerance: 10%; Supplier 1: Arrow; RoHS: Yes; Category: Ceramic Capacitors; Stock 1: 1284000; Pricing 1: 4000=0,01750, 8000=0,01600, 12000=0,01510, 28000=0,01500, 100000=0,01290, 1=0,13300, 10=0,09120, 25=0,09030, 100=0,04190, 250=0,04150, 500=0,02880, 1000=0,02360, 3000=0,02100, 6000=0,01620, 15000=0,01430, 30000=0,01330, 75000=0,01320, 150000=0,01070 (USD); Mount: Surface Mount; Case/Package: 0603; Case Code (Metric): 1608; Case Code (Imperial): 0603; Min Operating Temperature: -55°C; Max Operating Temperature: 125°C; Features: Soft Termination; Packaging: Tape and Reel; Voltage Rating: 16V; Length: 0.063inch; Width: 0.031inch; Thickness: 0.035inch; Ratings: AEC-Q200; ComponentLink1URL: http://www.samsungsem.com/servlet/FileDownload?filename=productcatalog/pdf/MLCC.pdf&src-supplier=Avnet; ComponentLink1Description: http://www.samsungsem.com/servlet/FileDownload?filename=productcatalog/pdf/MLCC.pdf&src-supplier=Avnet; ComponentLink2URL: http://www.samsungsem.com/kr/support/product-search/mlcc/CL10B474KO8VPNC.jsp?src-supplier=Digi-Key; ComponentLink2Description: http://www.samsungsem.com/kr/support/product-search/mlcc/CL10B474KO8VPNC.jsp?src-supplier=Digi-Key; Supplier Part Number 1: CL10B474KO8VPNC
footprint 0603-CAPC1608X09N (Chip Capacitor, 2-Leads, Body 1,60x0,80mm, IPC Medium Density)
pins: 1, 2

## CL10F104ZB8NNNC
designator C?, comment 100nF/50V
CAP CER 0.1UF 50V Y5V 0603; Manufacturer: Samsung; Manufacturer Part Number: CL10F104ZB8NNNC; Material: Ceramic; Tolerance: 80%; Capacitance: 100nF; Supplier 1: Avnet; RoHS: Yes; Category: Ceramic Capacitors; Stock 1: 28000; Mount: Surface Mount; Case/Package: 0603; Contact Plating: Tin; Case Code (Imperial): 0603; Case Code (Metric): 1608; Min Operating Temperature: -30°C; Max Operating Temperature: 85°C; Voltage Rating: 50V; Packaging: Tape and Reel; Package Quantity: 1; Dielectric: Y5V; Voltage: 50V; Length: 1.6mm; Height: 0.8mm; Width: 0.031inch; Thickness: 0.035inch; Depth: 0.8mm; Radiation Hardening: No; ComponentLink1URL: https://datasheet.ciiva.com/16396/cl10f104zb8nnnc-16396980.pdf?src-supplier=Future+Electronics; ComponentLink1Description: https://datasheet.ciiva.com/16396/cl10f104zb8nnnc-16396980.pdf?src-supplier=Future+Electronics; ComponentLink2URL: https://datasheet.ciiva.com/15195/getdatasheetpartid-355329-15195846.pdf?src-supplier=Verical; ComponentLink2Description: https://datasheet.ciiva.com/15195/getdatasheetpartid-355329-15195846.pdf?src-supplier=Verical; ComponentLink3URL: https://datasheet.ciiva.com/29198/456692-da-01-en-vs-kondensator-0603-29198848.pdf?src-supplier=Conrad; ComponentLink3Description: https://datasheet.ciiva.com/29198/456692-da-01-en-vs-kondensator-0603-29198848.pdf?src-supplier=Conrad; ComponentLink4URL: https://datasheet.ciiva.com/26310/mlcc-catalogdownload2013-eng-26310342.pdf?src-supplier=Distrelec; ComponentLink4Description: https://datasheet.ciiva.com/26310/mlcc-catalogdownload2013-eng-26310342.pdf?src-supplier=Distrelec; Supplier Part Number 1: CL10F104ZB8NNNC
footprint 0603-CAPC1608X09N (Chip Capacitor, 2-Leads, Body 1,60x0,80mm, IPC Medium Density)
pins: 1, 2

## CL10F474ZB8NNNC
designator C?, comment 470nF
Cap Ceramic 0.47uF 50V Y5V -20% to 80% SMD 0603 85C Paper T/R; Manufacturer: Samsung; Manufacturer Part Number: CL10F474ZB8NNNC; Supplier 1: Avnet; RoHS: Yes; Category: Ceramic Capacitors; Stock 1: 232000; Pricing 1: 4000=0,01873, 8000=0,01821, 16000=0,01772, 24000=0,01725, 40000=0,01681 (USD); Mount: Surface Mount; Case/Package: 0603; Case Code (Metric): 1608; Case Code (Imperial): 0603; Min Operating Temperature: -30°C; Max Operating Temperature: 85°C; Dielectric: Y5V; Capacitance: 470nF; Tolerance: 80%; Voltage Rating (DC): 50V; Package Quantity: 1; Packaging: Tape and Reel; Voltage Rating: 50V; Length: 1.6mm; Height: 0.8mm; Thickness: 0.035inch; Depth: 0.8mm; Width: 0.031inch; Radiation Hardening: No; ComponentLink1URL: https://datasheet.ciiva.com/25767/cl10f474zb8nnnc-25767393.pdf?src-supplier=Digi-Key; ComponentLink1Description: https://datasheet.ciiva.com/25767/cl10f474zb8nnnc-25767393.pdf?src-supplier=Digi-Key; Supplier Part Number 1: CL10F474ZB8NNNC
footprint 0603-CAPC1608X09N (Chip Capacitor, 2-Leads, Body 1,60x0,80mm, IPC Medium Density)
pins: 1, 2

## CRCW06031M00FKEA
designator R?, comment 1M
Thick Film Chip Resistor; Manufacturer: Vishay; Manufacturer Part Number: CRCW06031M00FKEA; Temperature Coefficient: 100ppm/°C; Tolerance: 1%; Resistance: 1MR; Power Rating: 100mW; Voltage Rating: 75V; Supplier 1: Avnet; RoHS: Yes; Category: Chip SMD Resistors; Stock 1: 90000; Pricing 1: 5000=0,00178, 10000=0,00175, 20000=0,00171, 30000=0,00167, 50000=0,00163 (USD); Mount: Surface Mount; Case/Package: 0603; Number of Pins: 2; Weight: 7.1E-05oz; Contact Plating: Tin; Case Code (Imperial): 0603; Case Code (Metric): 1608; Min Operating Temperature: -55°C; Max Operating Temperature: 155°C; Composition: Thick Film; Termination: SMD/SMT; Number of Terminations: 2; Features: Automotive AEC-Q200; Packaging: Tape and Reel; Package Quantity: 10; Max Power Dissipation: 100mW; Military Standard: Not; Voltage Rating (DC): 75V; Length: 1.55mm; Height: 0.45mm; Depth: 0.85mm; Width: 0.85mm; Radiation Hardening: No; Lead Free: Lead Free; REACH SVHC: Unknown; ComponentLink1URL: https://datasheet.ciiva.com/11809/0900766b80d98afc-11809074.pdf?src-supplier=RSComponents; ComponentLink1Description: https://datasheet.ciiva.com/11809/0900766b80d98afc-11809074.pdf?src-supplier=RSComponents; ComponentLink2URL: https://datasheet.ciiva.com/26314/fld-crcw-e3-data-en-26314645.pdf?src-supplier=Distrelec; ComponentLink2Description: https://datasheet.ciiva.com/26314/fld-crcw-e3-data-en-26314645.pdf?src-supplier=Distrelec; ComponentLink3URL: https://datasheet.ciiva.com/2465/dcrcwe3-2465549.pdf?src-supplier=Digi-Key; ComponentLink3Description: https://datasheet.ciiva.com/2465/dcrcwe3-2465549.pdf?src-supplier=Digi-Key; ComponentLink4URL: https://datasheet.ciiva.com/16311/dcrcwe3-16311533.pdf?src-supplier=Future+Electronics; ComponentLink4Description: https://datasheet.ciiva.com/16311/dcrcwe3-16311533.pdf?src-supplier=Future+Electronics; ComponentLink5URL: https://datasheet.ciiva.com/2465/dcrcwe3-2465550.pdf?src-supplier=Digi-Key; ComponentLink5Description: https://datasheet.ciiva.com/2465/dcrcwe3-2465550.pdf?src-supplier=Digi-Key; ComponentLink6URL: https://datasheet.ciiva.com/7841/1720486-7841822.pdf?src-supplier=Element14; ComponentLink6Description: https://datasheet.ciiva.com/7841/1720486-7841822.pdf?src-supplier=Element14; ComponentLink7URL: https://datasheet.ciiva.com/2465/dcrcwe3-2465551.pdf?src-supplier=Digi-Key; ComponentLink7Description: https://datasheet.ciiva.com/2465/dcrcwe3-2465551.pdf?src-supplier=Digi-Key; ComponentLink8URL: https://datasheet.ciiva.com/7841/125364-7841823.pdf?src-supplier=Element14; ComponentLink8Description: https://datasheet.ciiva.com/7841/125364-7841823.pdf?src-supplier=Element14; Supplier Part Number 1: CRCW06031M00FKEA
footprint 0603-RESC1608X06N (Chip Resistor, 2-Leads, Body 1,60x0,80mm, IPC Medium Density)
pins: 1, 2

## CRCW06034K70FKEAHP
designator R?, comment 4.7k
VISHAY - CRCW06034K70FKEAHP - SMD Chip Resistor, 0603 [1608 Metric], 4.7 kohm, CRCW-HP e3 Series, 75 V, Thick Film, 250 mW; Voltage Rating (DC): 75V; Temperature Coefficient: 100ppm/°C; Max Power Dissipation: 250mW; Tolerance: 1%; Resistance: 4.7kR; Supplier 1: Avnet; Manufacturer: Vishay; Manufacturer Part Number: CRCW06034K70FKEAHP; RoHS: Yes; Category: Chip SMD Resistors; Stock 1: 100000; Pricing 1: 5000=0,01703, 10000=0,01653, 20000=0,01585, 30000=0,01542, 50000=0,01500 (USD); Mount: Surface Mount; Case/Package: 0603; Weight: 7.1E-05oz; Contact Plating: Tin; Case Code (Imperial): 0603; Case Code (Metric): 1608; Min Operating Temperature: -55°C; Max Operating Temperature: 155°C; Termination: SMD/SMT; Composition: Thick Film; Number of Terminations: 2; Military Standard: Not; Power Rating: 250mW; Voltage Rating: 75V; Features: Automotive AEC-Q200; Packaging: Tape and Reel; Package Quantity: 10; Length: 1.6mm; Height: 0.45mm; Depth: 0.85mm; Width: 0.8mm; Radiation Hardening: No; Lead Free: Lead Free; REACH SVHC: Unknown; ComponentLink1URL: https://datasheet.ciiva.com/48527/crcwhpe3-48527014.pdf?src-supplier=Avnet; ComponentLink1Description: https://datasheet.ciiva.com/48527/crcwhpe3-48527014.pdf?src-supplier=Avnet; ComponentLink2URL: https://datasheet.ciiva.com/2472/crcwhpe3-2472509.pdf?src-supplier=Digi-Key; ComponentLink2Description: https://datasheet.ciiva.com/2472/crcwhpe3-2472509.pdf?src-supplier=Digi-Key; ComponentLink3URL: https://datasheet.ciiva.com/8079/424479-8079647.pdf?src-supplier=Element14; ComponentLink3Description: https://datasheet.ciiva.com/8079/424479-8079647.pdf?src-supplier=Element14; ComponentLink4URL: https://datasheet.ciiva.com/2472/crcwhpe3-2472508.pdf?src-supplier=Digi-Key; ComponentLink4Description: https://datasheet.ciiva.com/2472/crcwhpe3-2472508.pdf?src-supplier=Digi-Key; ComponentLink5URL: https://datasheet.ciiva.com/2472/crcwhpe3-2472510.pdf?src-supplier=Digi-Key; ComponentLink5Description: https://datasheet.ciiva.com/2472/crcwhpe3-2472510.pdf?src-supplier=Digi-Key; Supplier Part Number 1: CRCW06034K70FKEAHP
footprint 0603-RESC1608X06N (Chip Resistor, 2-Leads, Body 1,60x0,80mm, IPC Medium Density)
pins: 1, 2

## CRCW060310K0JNEAHP
designator R?, comment 10k
RES SMD 10K OHM 5% 1/4W 0603; Manufacturer: Vishay Dale; Manufacturer Part Number: CRCW060310K0JNEAHP; Resistance: 10kR; Temperature Coefficient: 200ppm/°C; Power Rating: 250mW; Voltage Rating: 75V; Supplier 1: Avnet; RoHS: Yes; Category: Chip SMD Resistors; Stock 1: 140000; Pricing 1: 5000=0,01562, 10000=0,01519, 20000=0,01478, 30000=0,01439, 50000=0,01402 (USD); Case/Package: 0603; Weight: 7.1E-05oz; Contact Plating: Tin; Case Code (Imperial): 0603; Case Code (Metric): 1608; Min Operating Temperature: -55°C; Max Operating Temperature: 155°C; Tolerance: 5%; Composition: Thick Film; Packaging: Tape and Reel; Package Quantity: 5000; Termination: SMD/SMT; Length: 1.6mm; Height: 0.45mm; Width: 0.8mm; Radiation Hardening: No; Lead Free: Lead Free; ComponentLink1URL: https://datasheet.ciiva.com/8336/crcwhpe3-8336745.pdf?src-supplier=Avnet; ComponentLink1Description: https://datasheet.ciiva.com/8336/crcwhpe3-8336745.pdf?src-supplier=Avnet; ComponentLink2URL: https://datasheet.ciiva.com/5552/crcwhpe3-46056-5552334.pdf?src-supplier=Mouser; ComponentLink2Description: https://datasheet.ciiva.com/5552/crcwhpe3-46056-5552334.pdf?src-supplier=Mouser; Supplier Part Number 1: CRCW060310K0JNEAHP
footprint 0603-RESC1608X06N (Chip Resistor, 2-Leads, Body 1,60x0,80mm, IPC Medium Density)
pins: 1, 2

## DSTK2594
designator C?, comment 470nF/50V
footprint Film Cap
pins: 1, 2

## DSTK2614
designator C?, comment 100nF/63V
footprint CERAMIC CAP
pins: 1, 2

## ECS-160-20-3X-TR
designator Y?, comment 16MHz
CRYSTAL 16.0000MHZ 20PF SMD; Manufacturer: ECS International; Manufacturer Part Number: ECS-160-20-3X-TR; Frequency Tolerance: 30ppm; ESR (Equivalent Series Resistance): 50R; Frequency Stability: 50ppm; Supplier 1: Avnet; RoHS: Yes; Category: Crystals; Stock 1: 3000; Pricing 1: 3000=0,16748, 6000=0,16282, 12000=0,15842, 18000=0,15425, 30000=0,15030 (USD); Mount: Surface Mount; Min Operating Temperature: -10°C; Max Operating Temperature: 70°C; Package Quantity: 1; Frequency: 16MHz; Load Capacitance: 20pF; Packaging: Tape and Reel; Tolerance: 30ppm; Termination: SMD/SMT; Length: 0.276inch; Height: 0.091inch; Width: 0.161inch; Lead Free: Lead Free; ComponentLink1URL: https://datasheet.ciiva.com/852/csm-3x-852328.pdf?src-supplier=Digi-Key; ComponentLink1Description: https://datasheet.ciiva.com/852/csm-3x-852328.pdf?src-supplier=Digi-Key; ComponentLink2URL: https://datasheet.ciiva.com/852/csm-3x-852329.pdf?src-supplier=Digi-Key; ComponentLink2Description: https://datasheet.ciiva.com/852/csm-3x-852329.pdf?src-supplier=Digi-Key; ComponentLink3URL: https://datasheet.ciiva.com/852/csm-3x-852330.pdf?src-supplier=Digi-Key; ComponentLink3Description: https://datasheet.ciiva.com/852/csm-3x-852330.pdf?src-supplier=Digi-Key; Supplier Part Number 1: ECS-160-20-3X-TR
footprint Crystal2
pins: 1, 2

## EXR470M50B
designator C?, comment 47uF/50V
CAP.EL.47uF 50V 6x11 2.5mm
footprint 6.3x11x2.5Capacitor
pins: 1, 2
text: +

## FID_1mm
designator F?
Fiducial 40mil Diameter, 120mil mask
footprint FID_40x120D

## INA214AIDCKR
designator U?, comment INA214
IC CURRENT MONITOR 1% SC70-6; Manufacturer: Texas Instruments; Manufacturer Part Number: INA214AIDCKR; Number of Channels: 1; Common Mode Rejection Ratio: 105dB; Unity Gain Bandwidth Product: 14kHz; Max Supply Voltage: 26V; Min Supply Voltage: 2.7V; Nominal Supply Current: 115uA; Input Offset Voltage (Vos): 60uV; Input Bias Current: 35uA; Gain Bandwidth Product: 30kHz; Voltage Gain: 40dB; Power Supply Rejection Ratio (PSRR): 140dB; Operating Supply Voltage: 3V; Operating Supply Current: 65uA; Slew Rate: 0.4V/µs; Supplier 1: Arrow; RoHS: Yes; Category: Amplifiers - Op Amps, Buffer, Instrumentation; Stock 1: 117000; Pricing 1: 3000=0,56520, 9000=0,54650, 3000=0,61180, 1=1,30890, 10=1,14080, 25=1,08950, 100=0,89250, 250=0,79610, 500=0,75940, 1000=0,59900 (USD); Mount: Surface Mount; Case/Package: SC; Number of Pins: 6; Weight: 8.8E-05oz; Contact Plating: Gold; Min Operating Temperature: -40°C; Max Operating Temperature: 125°C; Package Quantity: 3000; Packaging: Tape and Reel; Bandwidth: 14kHz; Number of Elements: 1; Accuracy: 1%; Number of Circuits: 1; Radiation Hardening: No; Lead Free: Lead Free; ComponentLink1URL: https://datasheet.ciiva.com/15129/getdatasheetpartid-518638-15129119.pdf?src-supplier=Verical; ComponentLink1Description: https://datasheet.ciiva.com/15129/getdatasheetpartid-518638-15129119.pdf?src-supplier=Verical; ComponentLink2URL: https://datasheet.ciiva.com/2978/ina213-2978047.pdf?src-supplier=Avnet; ComponentLink2Description: https://datasheet.ciiva.com/2978/ina213-2978047.pdf?src-supplier=Avnet; ComponentLink3URL: https://datasheet.ciiva.com/14338/ina213-14338076.pdf?src-supplier=Avnet; ComponentLink3Description: https://datasheet.ciiva.com/14338/ina213-14338076.pdf?src-supplier=Avnet; ComponentLink4URL: https://datasheet.ciiva.com/1939/ina211-1939983.pdf?src-supplier=Digi-Key; ComponentLink4Description: https://datasheet.ciiva.com/1939/ina211-1939983.pdf?src-supplier=Digi-Key; Supplier Part Number 1: INA214AIDCKR
footprint SOT65P210X110-6N (SOT23, 6-Leads, Body 2,00x2,10mm, Pitch 0,65mm, IPC Medium Density)
pins: 1 REF, 2 GND, 3 V+, 4 IN+, 5 IN-, 6 OUT